# Altium footprint library PCB - LEADLESS - DFN - SKYWORKS DFN-6 1.5X1.5MM.PCBLIB: 1 footprints
Each footprint in its own frame and in the unit in brackets; x right, y up, seen from the top. Pads: shape width x height; smd on the part's side, far side on the other; paste and mask are expansions set on the pad; w line width, h text height; cw(c..) or ccw(c..) is an arc to the next point about the centre after c.
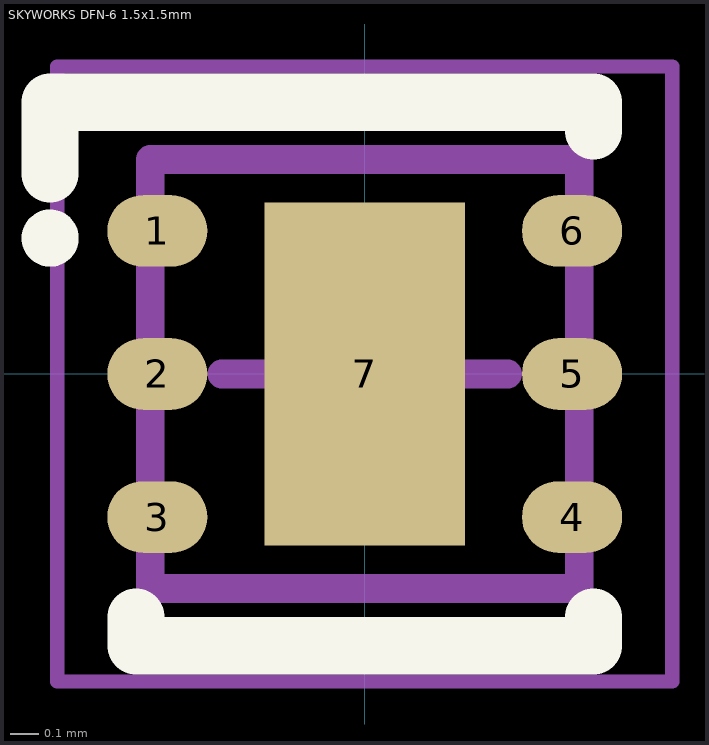
[diagram p0: the footprint, top view; thin cyan lines are the x and y axes]

## SKYWORKS DFN-6 1.5x1.5mm [mm] "DFN, 6-Leads, Body 1.50x1.50mm, Pitch 0.50mm, Thermal Pad 0.70x1.20mm, IPC High Density"
height 0.5
pads (7):
  oval 0.35x0.25 smd: 1(-0.725,0.5) 2(-0.725,0) 3(-0.725,-0.5) 4(0.725,-0.5) 5(0.725,0) 6(0.725,0.5)
  rect 0.7x1.2 smd: 7(0,0)
Top Overlay:
  circle w0.1: c-1.1,0.475 r0.05
  lines w0.2: -1.1,0.7 -1.1,0.95 0.8,0.95 0.8,0.85 ; -0.8,-0.85 -0.8,-0.95 0.8,-0.95 0.8,-0.85
Mechanical 13:
  lines w0.1: -0.75,-0.75 0.75,-0.75 0.75,0.75 -0.75,0.75 -0.75,-0.75
Mechanical 15:
  lines w0.05: -1.075,-1.075 1.075,-1.075 1.075,1.075 -1.075,1.075 -1.075,-1.075
  lines w0.1: -0.5,0 0.5,0 ; 0,-0.5 0,0.5
3D body: height 0.5, standoff 0.01, extent -0.75,-0.75 0.75,0.75